# Altium integrated library Battery_Management.IntLib: 11 symbols
Pins are listed as number, name and electrical type; pins without a type are passive.

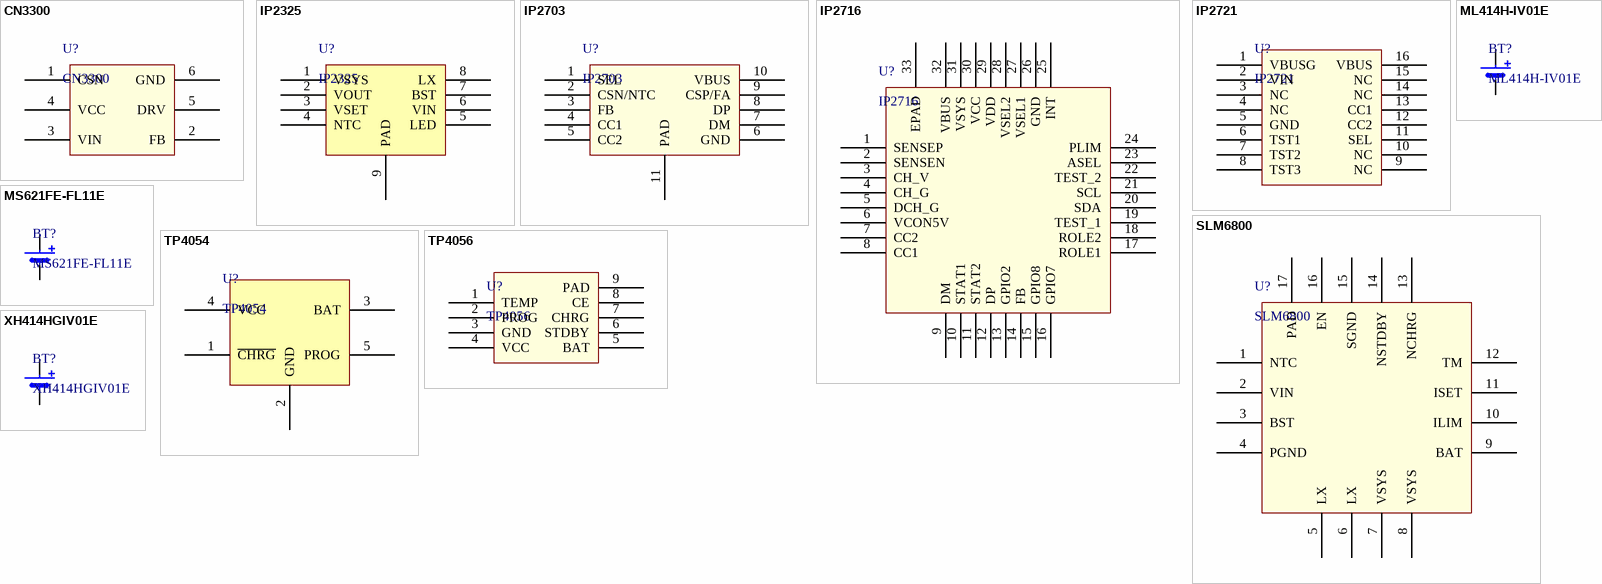
[diagram p0: symbols CN3300 to XH414HGIV01E]

## CN3300
designator U?
footprint SOT-23-6 (SOT23, 6-Leads, Body 2.90x2.80mm, Pitch 0.95mm, IPC Medium Density)
pins: 1 CSN, 2 FB, 3 VIN, 4 VCC, 5 DRV, 6 GND

## IP2325
designator U?
5V 输入双节串联锂电池升压充电 IC
footprint SO-8_1EP_3.9x4.9mm_P1.27mm_EP2x3mm (SOIC, 8-Leads, Body 4.9x3.90mm, Pitch 1.27mm, IPC Medium Density)
pins: 1 VSYS, 2 VOUT, 3 VSET, 4 NTC, 5 LED, 6 VIN, 7 BST, 8 LX, 9 PAD

## IP2703
designator U?
快充协议 IC
footprint SON-10-1EP_3x3mm_P0.5mm_EP2.5x1.55mm (SON, 10-Leads, Body 3.00x3.00mm, Pitch 0.50mm, Thermal Pad 2.50x1.55mm, IPC Low Density)
pins: 1 SEL, 2 CSN/NTC, 3 FB, 4 CC1, 5 CC2, 6 GND, 7 DM, 8 DP, 9 CSP/FA, 10 VBUS, 11 PAD

## IP2716
designator U?
多协议，快充协议 IC，支持PD
footprint QFN-32-1EP_5x5mm_P0.5mm_EP3.5x3.5mm_ThermalVia (QFN, 32-Leads, Body 5.00x5.00mm, Pitch 0.50mm, Thermal Pad 3.50x3.50mm, IPC Medium Density)
pins: 1 SENSEP, 2 SENSEN, 3 CH_V, 4 CH_G, 5 DCH_G, 6 VCON5V, 7 CC2, 8 CC1, 9 DM, 10 STAT1, 11 STAT2, 12 DP, 13 GPIO2, 14 FB, 15 GPIO8, 16 GPIO7, 17 ROLE1, 18 ROLE2, 19 TEST_1, 20 SDA, 21 SCL, 22 TEST_2, 23 ASEL, 24 PLIM, 25 INT, 26 GND, 27 VSEL1, 28 VSEL2, 29 VDD, 30 VCC, 31 VSYS, 32 VBUS, 33 EPAD

## IP2721
designator U?
集成 USB TYPEC/PD2.0/PD3.0 协议 / 用于 USB TYPEC 输入端口的快充协议 IC
footprint SSOP-16_4.4x5mm_P0.65 (TSOP, 16-Leads, Body 5.00x4.40mm, Pitch 0.65mm, Thermal Pad 3.30x3.30mm, IPC Medium Density)
pins: 1 VBUSG, 2 VIN, 3 NC, 4 NC, 5 GND, 6 TST1, 7 TST2, 8 TST3, 9 NC, 10 NC, 11 SEL, 12 CC2, 13 CC1, 14 NC, 15 NC, 16 VBUS

## ML414H-IV01E
designator BT?
Seiko(精工)3.1V可充电纽扣电池 3.1V可充电纽扣电池/1mAh/可无铅回流焊
footprint ML414H-IV01E
pins: 1 +, 2 -

## MS621FE-FL11E
designator BT?
Seiko(精工)可充电纽扣电池 3.3V可充电 5.5mAh
footprint MS621FE-FL11E
pins: 1 +, 2 -

## SLM6800
designator U?
SLM6800 5V 输入两节锂电池升压充电电路
footprint QFN-16-1EP_4x4mm_P0.65mm_EP2.15x2.15mm (QFN, 16-Leads, Body 4.00x4.00mm, Pitch 0.65mm, Thermal Pad 2.15x2.15mm, IPC Medium Density)
pins: 1 NTC, 2 VIN, 3 BST, 4 PGND, 5 LX, 6 LX, 7 VSYS, 8 VSYS, 9 BAT, 10 ILIM, 11 ISET, 12 TM, 13 NCHRG, 14 NSTDBY, 15 SGND, 16 EN, 17 PAD

## TP4054
designator U?
footprint SOT-23-5 (SOT23, 5-Leads, Body 2.90x2.45mm, Pitch 0.95mm, IPC Medium Density)
pins: 1 ~{CHRG}, 2 GND, 3 BAT, 4 VCC, 5 PROG

## TP4056
designator U?
1A线性锂离子电池充电器
footprint SO-8_1EP_3.9x4.9mm_P1.27mm_EP2x3mm (SOIC, 8-Leads, Body 4.9x3.90mm, Pitch 1.27mm, IPC Medium Density)
pins: 1 TEMP, 2 PROG, 3 GND, 4 VCC, 5 BAT, 6 STDBY, 7 CHRG, 8 CE, 9 PAD

## XH414HGIV01E
designator BT?
0~3.3V 超级电容 可无铅回流焊 260°C
footprint XH414HGIV01E
pins: 1 +, 2 -